# Altium footprint library generic 32u4 lib 1.PcbLib: 25 footprints (part 1 of 2)
Each footprint in its own frame and in the unit in brackets; x right, y up, seen from the top. Pads: shape width x height; smd on the part's side, far side on the other; paste and mask are expansions set on the pad; w line width, h text height; cw(c..) or ccw(c..) is an arc to the next point about the centre after c.
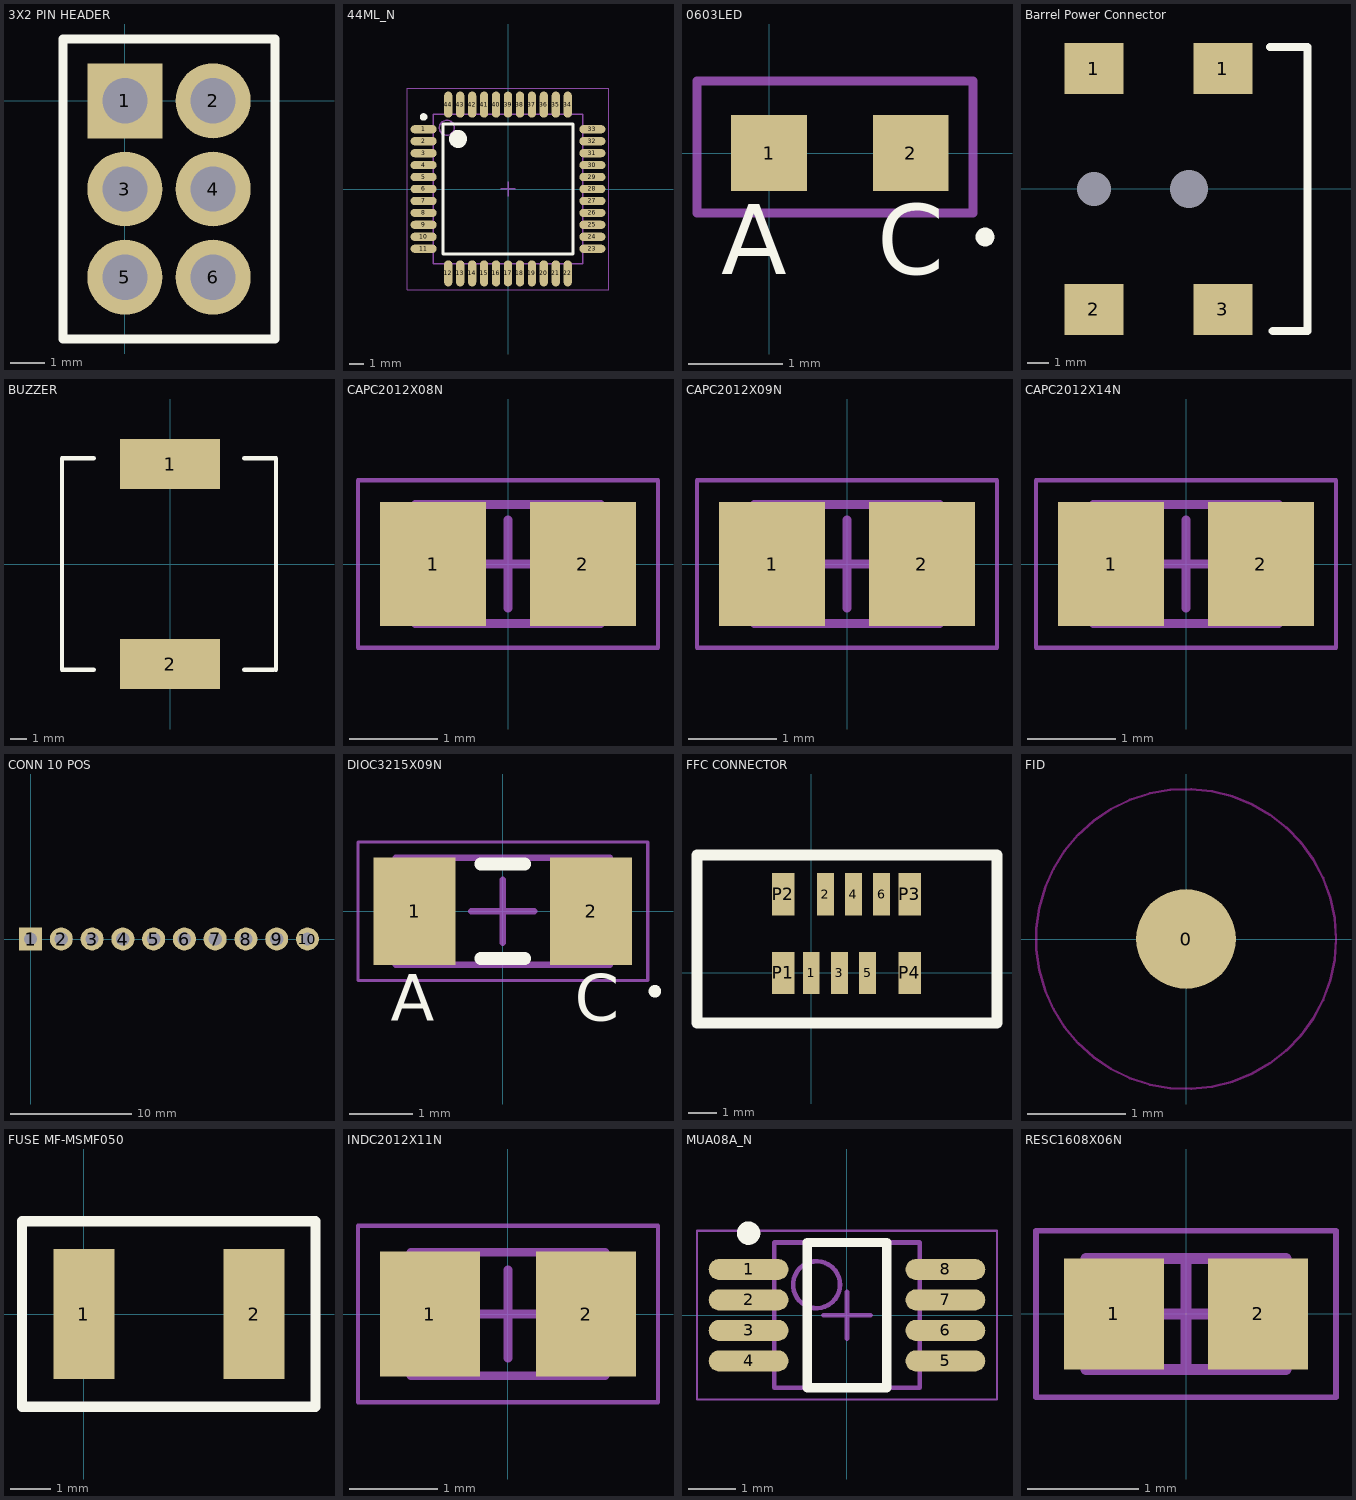
[diagram p0: the footprints below, top view; thin cyan lines are the x and y axes]

## 3X2 PIN HEADER [mil] "0.100\" Pin Header"
height 269.29
pads (6):
  rect 85x85 hole 51.18: 1(0,0)
  round 85 hole 51.18: 2(100,0) 3(0,-100) 4(100,-100) 5(0,-200) 6(100,-200)
Top Overlay:
  lines w10: -70,-270 -70,35 -70,70 170,70 170,-270 -70,-270
  text "." at -120,5 h39.37
3D body "User Library-IDC6.STEP": height 318.07, standoff -115, extent -50,-250 150,50

## 44ML_N [mm] "Thin QFP, 44-Leads, Body 10x10mm, Pitch 0.8mm, IPC Medium Density"
height 1.2
pads (44):
  oval 1.75x0.55 smd: 1(-5.65,4) 2(-5.65,3.2) 3(-5.65,2.4) 4(-5.65,1.6) 5(-5.65,0.8) 6(-5.65,0) 7(-5.65,-0.8) 8(-5.65,-1.6) 9(-5.65,-2.4) 10(-5.65,-3.2) 11(-5.65,-4) 23(5.65,-4) 24(5.65,-3.2) 25(5.65,-2.4) 26(5.65,-1.6) 27(5.65,-0.8) 28(5.65,0) 29(5.65,0.8) 30(5.65,1.6) 31(5.65,2.4) 32(5.65,3.2) 33(5.65,4)
  oval 0.55x1.75 smd: 12(-4,-5.65) 13(-3.2,-5.65) 14(-2.4,-5.65) 15(-1.6,-5.65) 16(-0.8,-5.65) 17(0,-5.65) 18(0.8,-5.65) 19(1.6,-5.65) 20(2.4,-5.65) 21(3.2,-5.65) 22(4,-5.65) 34(4,5.65) 35(3.2,5.65) 36(2.4,5.65) 37(1.6,5.65) 38(0.8,5.65) 39(0,5.65) 40(-0.8,5.65) 41(-1.6,5.65) 42(-2.4,5.65) 43(-3.2,5.65) 44(-4,5.65)
Top Overlay:
  circle w0.6: c-3.35,3.35 r0.3
  circle w0.25: c-5.65,4.825 r0.125
  lines w0.2: -4.35,-4.35 4.35,-4.35 4.35,4.35 -4.35,4.35 -4.35,-4.35
Top Solder:
  rectangle: -4.394,4.674 4.394,6.629
  rectangle: -4.394,-6.629 4.394,-4.674
  region: 6.629,-4.394 6.629,4.394 4.674,4.394 4.674,-4.394
  region: -4.674,-4.394 -4.674,4.394 -6.629,4.394 -6.629,-4.394
Mechanical 13:
  circle w0.1: c-4.1,4.1 r0.5
  lines w0.1: -5,-5 5,-5 5,5 -5,5 -5,-5
Mechanical 15:
  lines w0.05: -6.75,-6.75 6.75,-6.75 6.75,6.75 -6.75,6.75 -6.75,-6.75
  lines w0.1: -0.5,0 0.5,0 ; 0,-0.5 0,0.5
3D body: height 1.2, standoff 0, extent -5,-5 5,5

## 0603LED [mm] "0603LED"
height 0.67
pads (2):
  rect 0.8x0.8 smd: 1(0,0) 2(1.5,0)
Top Overlay:
  circle w0.1: c2.286,-0.889 r0.05
  text "C" at 1.143,-1.524 h1.27
  text "A" at -0.508,-1.524 h1.27
Mechanical 15:
  lines w0.1: -0.762,-0.635 2.159,-0.635 2.159,0.762 -0.762,0.762 -0.762,-0.635
3D body "User Library-LED_0603_R.STEP": height 0.6, standoff 0, extent -0.038,-0.403 1.562,0.397

## Barrel Power Connector [mm] "PJ-002AH-SMT-TR 5.5mm OD 2.1 ID"
height 11
pads (6):
  rect 2.8x2.4 smd: 1(5,5.7) 1(11.1,5.7) 2(5,-5.7) 3(11.1,-5.7)
  rect 0x0 hole 1.6 unplated: H1(5,0)
  rect 0x0 hole 1.8 unplated: H2(9.5,0)
Top Overlay:
  lines w0.381: 13.335,6.731 15.113,6.731 15.113,-6.731 13.462,-6.731
  text "." at 16.383,5.588 h1.5
3D body "pj-002ah-smt-new coodinates.STEP": height 11.2, standoff -1, extent -0.034,-6.35 14.766,6.25

## BUZZER [mm] "CMT-1203"
height 3
pads (2):
  rect 6x3 smd: 1(0,6) 2(0,-6)
Top Overlay:
  lines w0.254: -4.572,-6.35 -6.477,-6.35 -6.477,6.35 -6.35,6.35 -4.572,6.35 ; 4.445,-6.35 6.223,-6.35 ; 4.445,6.35 6.35,6.35 6.35,-6.35
  text "." at -0.254,8.382 h1.5
3D body "cmt-1203-smt.stp": height 3.05, standoff 0, extent -6.031,-6 5.969,6

## CAPC2012X08N [mm] "Chip Capacitor, 2-Leads, Body 2.00x1.25mm, IPC Medium Density"
height 0.75
pads (2):
  rect 1.2x1.4 smd: 1(-0.85,0) 2(0.85,0)
Mechanical 13:
  lines w0.1: -1.05,-0.675 1.05,-0.675 1.05,0.675 -1.05,0.675 -1.05,-0.675
Mechanical 15:
  lines w0.05: -1.7,-0.95 1.7,-0.95 1.7,0.95 -1.7,0.95 -1.7,-0.95
  lines w0.1: -0.5,0 0.5,0 ; 0,-0.5 0,0.5
3D body "CAPC2012X08N.step": height 0.75, standoff 0, extent -1.05,-0.675 1.05,0.675

## CAPC2012X09N [mm] "Chip Capacitor, 2-Leads, Body 2.00x1.25mm, IPC Medium Density"
height 0.95
pads (2):
  rect 1.2x1.4 smd: 1(-0.85,0) 2(0.85,0)
Mechanical 13:
  lines w0.1: -1.05,-0.675 1.05,-0.675 1.05,0.675 -1.05,0.675 -1.05,-0.675
Mechanical 15:
  lines w0.05: -1.7,-0.95 1.7,-0.95 1.7,0.95 -1.7,0.95 -1.7,-0.95
  lines w0.1: -0.5,0 0.5,0 ; 0,-0.5 0,0.5
3D body "CAPC2012X09N.step": height 0.95, standoff 0, extent -1.05,-0.675 1.05,0.675

## CAPC2012X14N [mm] "Chip Capacitor, 2-Leads, Body 2.00x1.25mm, IPC Medium Density"
height 1.35
pads (2):
  rect 1.2x1.4 smd: 1(-0.85,0) 2(0.85,0)
Mechanical 13:
  lines w0.1: -1.05,-0.675 1.05,-0.675 1.05,0.675 -1.05,0.675 -1.05,-0.675
Mechanical 15:
  lines w0.05: -1.7,-0.95 1.7,-0.95 1.7,0.95 -1.7,0.95 -1.7,-0.95
  lines w0.1: -0.5,0 0.5,0 ; 0,-0.5 0,0.5
3D body "CAPC2012X14N.step": height 1.35, standoff 0, extent -1.05,-0.675 1.05,0.675

## CONN 10 POS [mm] "10 POS 0.1\" Screw Header"
height 10
pads (10):
  rect 1.905x1.905 hole 1.1: 1(0,0)
  round 1.905 hole 1.1: 2(2.54,0) 3(5.08,0) 4(7.62,0) 5(10.16,0) 6(12.7,0) 7(15.24,0) 8(17.78,0) 9(20.32,0) 10(22.86,0)
Top Overlay:
  text "." at -0.127,4.191 h1.5
3D body "c-1-282834-0-c-3d.stp": height 9.5, standoff -3.9, extent -1.473,-3.174 24.387,3.326

## DIOC3215X09N [mm] "Chip Diode, 2-Leads, Body 3.20x1.50mm, IPC Medium Density"
height 0.95
pads (2):
  rect 1.3x1.7 smd: 1(-1.4,0) 2(1.4,0)
Top Overlay:
  circle w0.1: c2.413,-1.27 r0.05
  lines w0.2: -0.35,-0.75 0.35,-0.75 ; -0.35,0.75 0.35,0.75
  text "A" at -1.778,-1.981 h1.27
  text "C" at 1.143,-1.981 h1.27
Mechanical 13:
  lines w0.1: -1.7,-0.85 -1.7,0.85 1.7,0.85 1.7,-0.85 -1.7,-0.85
Mechanical 15:
  lines w0.05: -2.3,-1.1 -2.3,1.1 2.3,1.1 2.3,-1.1 -2.3,-1.1
  lines w0.1: -0.5,0 0.5,0 ; 0,-0.5 0,0.5
3D body "DIOC3215X09N.step": height 0.95, standoff 0, extent -1.7,-0.85 1.7,0.85

## FFC CONNECTOR [mm] "6POS 0.5MM"
height 5.3
pads (10):
  rect 0.6x1.5 smd: 1(0,0) 2(0.5,2.8) 3(1,0) 4(1.5,2.8) 5(2,0) 6(2.5,2.8)
  rect 0.8x1.5 smd: P1(-1,0) P2(-1,2.8) P3(3.5,2.8) P4(3.5,0)
Top Overlay:
  lines w0.381: -4.064,-1.778 6.604,-1.778 6.604,4.191 -2.794,4.191 -4.064,4.191 -4.064,-1.778
  text "." at -0.102,-2.794 h1
Top Solder:
  rectangle: 2.9,1.95 3,3.65
  rectangle: -0.5,-0.85 -0.4,0.85
3D body "525590652.stp": height 5.3, standoff 0, extent -3.08,-0.253 5.62,3.247

## FID [mil] "FIDUCIAL"
pads (1):
  round 40 smd paste+0 mask+40: 0(0,0)
Keep-Out Layer:
  circle w1: c0,0 r60.21

## FUSE MF-MSMF050 [mm]
height 0.033
pads (2):
  rect 1.5x3.2 smd: 1(0,0) 2(4.2,0)
Top Overlay:
  lines w0.254: -1.524,-2.286 5.715,-2.286 5.715,2.286 -1.524,2.286 -1.524,-2.286
3D body "mf-msmf050.stp": height 0.7, standoff 0, extent -0.116,-1.62 4.434,1.62

## INDC2012X11N [mm] "Chip Inductor, 2-Leads, Body 2.00x1.20mm, IPC Medium Density"
height 1.1
pads (2):
  rect 1.13x1.42 smd: 1(-0.885,0) 2(0.885,0)
Mechanical 13:
  lines w0.1: -1.1,-0.7 1.1,-0.7 1.1,0.7 -1.1,0.7 -1.1,-0.7
Mechanical 15:
  lines w0.05: -1.7,-1 1.7,-1 1.7,1 -1.7,1 -1.7,-1
  lines w0.1: -0.5,0 0.5,0 ; 0,-0.5 0,0.5
3D body: height 1.1, standoff 0, extent 0.6,-0.7 1.1,0.7
3D body: height 1.1, standoff 0, extent -1.1,-0.7 -0.6,0.7
3D body: height 1.1, standoff 0, extent -0.6,-0.7 0.6,0.7

## MUA08A_N [mm] "TSOP, 8-Leads, Body 3x3mm, Pitch 0.65mm, IPC Medium Density"
height 1.09
pads (8):
  oval 1.7x0.45 smd: 1(-2.1,0.975) 2(-2.1,0.325) 3(-2.1,-0.325) 4(-2.1,-0.975) 5(2.1,-0.975) 6(2.1,-0.325) 7(2.1,0.325) 8(2.1,0.975)
Top Overlay:
  circle w0.25: c-2.1,1.75 r0.125
  lines w0.2: -0.85,-1.55 -0.85,1.55 0.85,1.55 0.85,-1.55 -0.85,-1.55
Mechanical 13:
  circle w0.1: c-0.65,0.65 r0.5
  lines w0.1: -1.55,-1.55 -1.55,1.55 1.55,1.55 1.55,-1.55 -1.55,-1.55
Mechanical 15:
  lines w0.05: -3.2,-1.8 -3.2,1.8 3.2,1.8 3.2,-1.8 -3.2,-1.8
  lines w0.1: -0.5,0 0.5,0 ; 0,-0.5 0,0.5
3D body: height 1.09, standoff 0.06, extent -1.55,-1.55 1.55,1.55

## RESC1608X06N [mm] "Chip Resistor, 2-Leads, Body 1.60x0.80mm, IPC Medium Density"
height 0.55
pads (2):
  rect 0.9x1 smd: 1(-0.65,0) 2(0.65,0)
Mechanical 13:
  lines w0.1: -0.9,-0.5 0.9,-0.5 0.9,0.5 -0.9,0.5 -0.9,-0.5
Mechanical 15:
  lines w0.05: -1.35,-0.75 1.35,-0.75 1.35,0.75 -1.35,0.75 -1.35,-0.75
  lines w0.1: -0.5,0 0.5,0 ; 0,-0.5 0,0.5
3D body: height 0.55, standoff 0, extent 0.6,-0.5 0.9,0.5
3D body: height 0.55, standoff 0, extent -0.9,-0.5 -0.6,0.5
3D body: height 0.55, standoff 0, extent -0.6,-0.5 0.6,0.5